# Altium footprint library HYB Modules.PcbLib: 2 footprints
Each footprint in its own frame and in the unit in brackets; x right, y up, seen from the top. Pads: shape width x height; smd on the part's side, far side on the other; paste and mask are expansions set on the pad; w line width, h text height; cw(c..) or ccw(c..) is an arc to the next point about the centre after c.
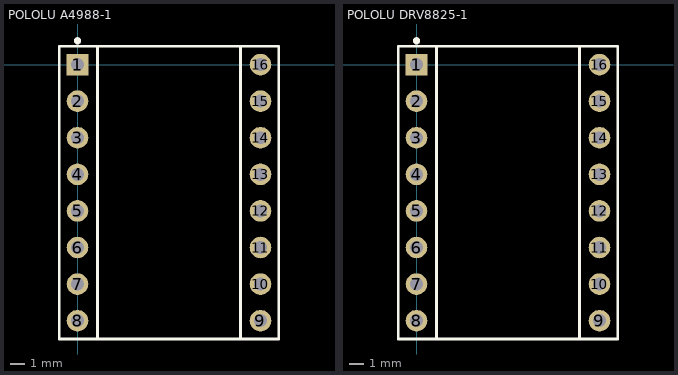
[diagram p0: the footprints below, top view; thin cyan lines are the x and y axes]

## POLOLU A4988-1 [mm] "A4988 Stepper Motor Driver Carrier Black Edition Module"
pads (16):
  rect 1.5x1.5 hole 0.9: 1(0,0)
  round 1.5 hole 0.9: 2(0,-2.54) 3(0,-5.08) 4(0,-7.62) 5(0,-10.16) 6(0,-12.7) 7(0,-15.24) 8(0,-17.78) 9(12.7,-17.78) 10(12.7,-15.24) 11(12.7,-12.7) 12(12.7,-10.16) 13(12.7,-7.62) 14(12.7,-5.08) 15(12.7,-2.54) 16(12.7,0)
Top Overlay:
  circle w0.25: c0,1.649 r0.125
  lines w0.2: 1.397,-19.05 1.397,1.27 ; 11.303,-19.05 11.303,1.27 ; -1.27,-19.05 13.97,-19.05 13.97,1.27 -1.27,1.27 -1.27,-19.05
3D body "a4988-stepper-motor-driver-carrier-black-edition.step": height 7.18, standoff -4.69, extent -1.27,-19.05 13.97,1.27

## POLOLU DRV8825-1 [mm] "DRV8825 High Current Stepper Motor Driver Module"
pads (16):
  rect 1.5x1.5 hole 0.9: 1(0,0)
  round 1.5 hole 0.9: 2(0,-2.54) 3(0,-5.08) 4(0,-7.62) 5(0,-10.16) 6(0,-12.7) 7(0,-15.24) 8(0,-17.78) 9(12.7,-17.78) 10(12.7,-15.24) 11(12.7,-12.7) 12(12.7,-10.16) 13(12.7,-7.62) 14(12.7,-5.08) 15(12.7,-2.54) 16(12.7,0)
Top Overlay:
  circle w0.25: c0,1.649 r0.125
  lines w0.2: 1.397,-19.05 1.397,1.27 ; 11.303,-19.05 11.303,1.27 ; -1.27,-19.05 13.97,-19.05 13.97,1.27 -1.27,1.27 -1.27,-19.05
3D body "drv8825-stepper-motor-driver-carrier-high-current.step": height 7.18, standoff -4.69, extent -1.27,-19.05 13.97,1.27